# Altium footprint library Sensors.PcbLib: 1 footprints
Each footprint in its own frame and in the unit in brackets; x right, y up, seen from the top. Pads: shape width x height; smd on the part's side, far side on the other; paste and mask are expansions set on the pad; w line width, h text height; cw(c..) or ccw(c..) is an arc to the next point about the centre after c.
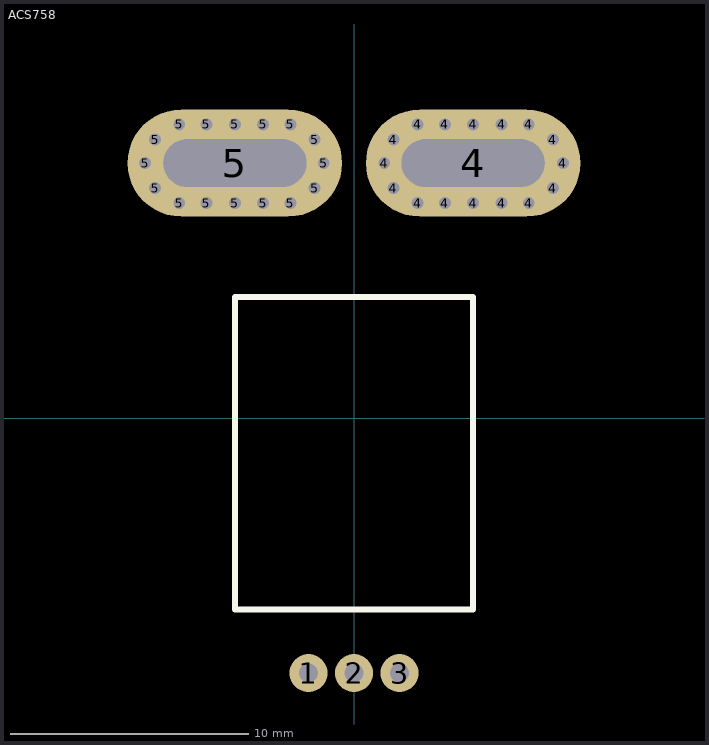
[diagram p0: the footprint, top view; thin cyan lines are the x and y axes]

## ACS758 [mm]
pads (37):
  round 1.6 hole 0.8: 1(-1.91,-10.7) 2(0,-10.7) 3(1.91,-10.7)
  round 0.7 hole 0.5: 4(1.27,10.7) 4(1.651,9.652) 4(1.651,11.684) 4(2.667,9.017) 4(2.667,12.319) 4(3.81,9.017) 4(3.81,12.319) 4(5,9.017) 4(5,12.319) 4(6.19,9.017) 4(6.19,12.319) 4(7.333,9.017) 4(7.333,12.319) 4(8.349,9.652) 4(8.349,11.684) 4(8.763,10.7) 5(-8.763,10.7) 5(-8.349,9.652) 5(-8.349,11.684) 5(-7.333,9.017) 5(-7.333,12.319) 5(-6.19,9.017) 5(-6.19,12.319) 5(-5,9.017) 5(-5,12.319) 5(-3.81,9.017) 5(-3.81,12.319) 5(-2.667,9.017) 5(-2.667,12.319) 5(-1.651,9.652) 5(-1.651,11.684) 5(-1.27,10.7)
  oval 9x4.5 hole 2 slot 6 at 0 deg: 4(5,10.7) 5(-5,10.7)
Top Overlay:
  lines w0.254: -5,-8.024 5,-8.024 ; -5,-8 -5,5.08 5,5.08 5,-8